# Altium footprint library ATK-BLE01_V1.9.PcbLib: 1 footprints
Each footprint in its own frame and in the unit in brackets; x right, y up, seen from the top. Pads: shape width x height; smd on the part's side, far side on the other; paste and mask are expansions set on the pad; w line width, h text height; cw(c..) or ccw(c..) is an arc to the next point about the centre after c.
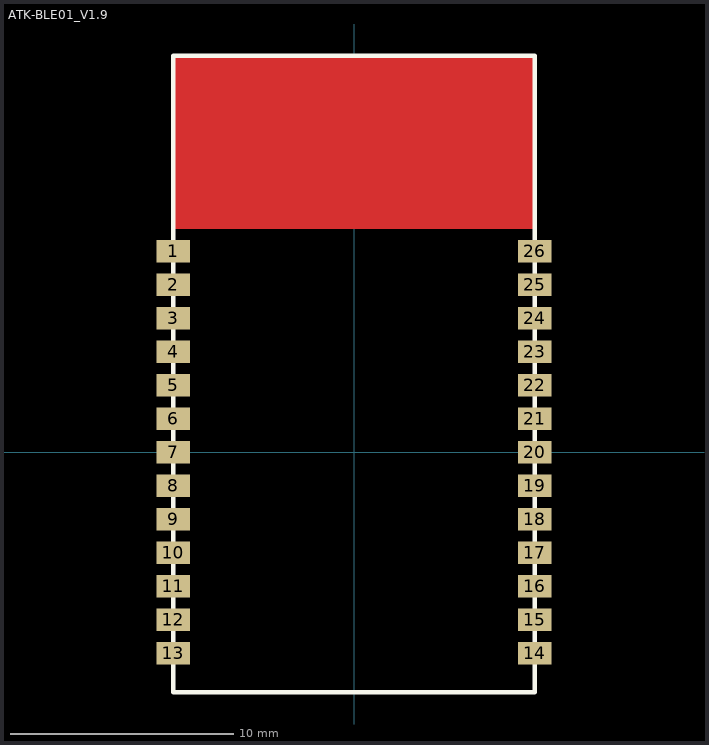
[diagram p0: the footprint, top view; thin cyan lines are the x and y axes]

## ATK-BLE01_V1.9 [mm]
pads (26):
  rect 1.5x1 smd: 1(-8.103,9) 2(-8.103,7.5) 3(-8.103,6) 4(-8.103,4.5) 5(-8.103,3) 6(-8.103,1.5) 7(-8.103,0) 8(-8.103,-1.5) 9(-8.103,-3) 10(-8.103,-4.5) 11(-8.103,-6) 12(-8.103,-7.5) 13(-8.103,-9) 14(8.103,-9) 15(8.103,-7.5) 16(8.103,-6) 17(8.103,-4.5) 18(8.103,-3) 19(8.103,-1.5) 20(8.103,0) 21(8.103,1.5) 22(8.103,3) 23(8.103,4.5) 24(8.103,6) 25(8.103,7.5) 26(8.103,9)
Top Layer:
  pour cut-out: -8.1,17.75 -8.1,10.002 8.1,10.002 8.1,17.75
Top Overlay:
  lines w0.203: -8.103,-10.744 -8.103,17.756 8.097,17.756 8.097,-10.744 -8.103,-10.744